# Altium schematic symbol library SIM800C.SchLib: 1 symbol
Pins are listed as number, name and electrical type; pins without a type are passive.

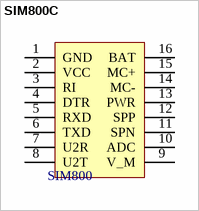
[diagram p0: symbol SIM800C]

## SIM800C
designator SIM800  (value not drawn)
footprint SIM_800C
pins: 1 GND, 2 VCC, 3 RI, 4 DTR, 5 RXD, 6 TXD, 7 U2R, 8 U2T, 9 V_M, 10 ADC, 11 SPN, 12 SPP, 13 PWR, 14 MC-, 15 MC+, 16 BAT